# EAGLE library part RELAY (library rf-jqi)
Coto Relay, 9000 series.
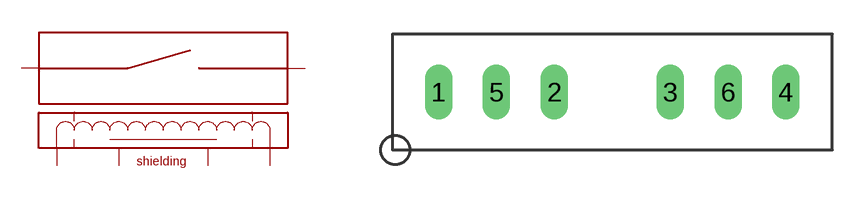
[diagram p11: symbol with the pads of 6-SIP; footprint 6-SIP]

Designator prefix -

## RELAY9002-12-01  [6-SIP]
1  SIG1  pas
2  COIL1  pas
3  COIL2  pas
4  SIG2  pas
5  SHIELD1  pas
6  SHIELD2  pas

## Footprint 6-SIP (pad centres in mm)
drill 0.7 long: 1 -7.62,0; 2 -2.54,0; 3 2.54,0; 4 7.62,0; 5 -5.08,0; 6 5.08,0